# Altium footprint library DS3231_V858.PcbLib: 1 footprints
Each footprint in its own frame and in the unit in brackets; x right, y up, seen from the top. Pads: shape width x height; smd on the part's side, far side on the other; paste and mask are expansions set on the pad; w line width, h text height; cw(c..) or ccw(c..) is an arc to the next point about the centre after c.
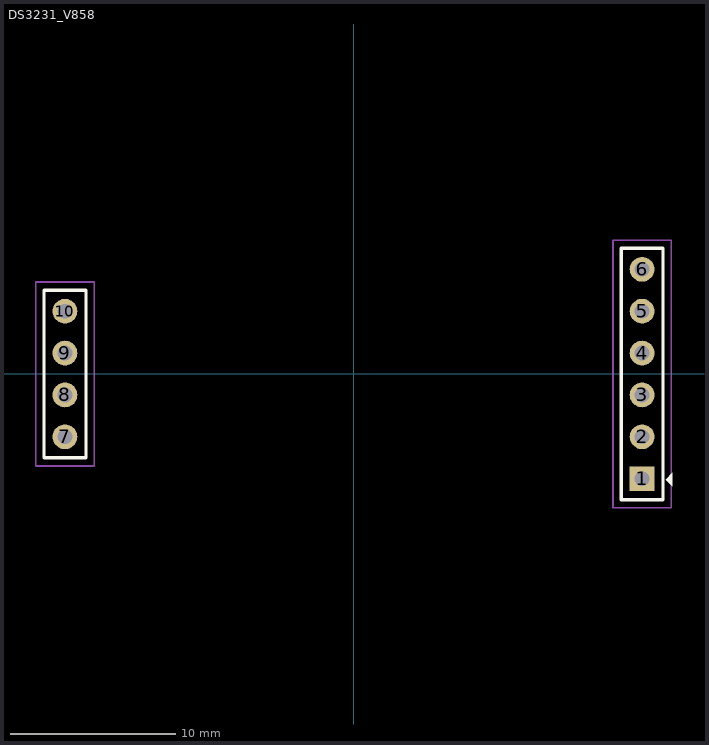
[diagram p0: the footprint, top view; thin cyan lines are the x and y axes]

## DS3231_V858 [mm]
pads (10):
  rect 1.5x1.5 hole 0.9: 1(17.504,-6.35)
  round 1.5 hole 0.9: 2(17.504,-3.81) 3(17.504,-1.27) 4(17.504,1.27) 5(17.504,3.81) 6(17.504,6.35) 7(-17.504,-3.811) 8(-17.504,-1.271) 9(-17.504,1.269) 10(-17.504,3.809)
Top Overlay:
  region: 19.328,-6.001 19.328,-6.801 18.928,-6.401
  lines w0.2: -18.771,-5.081 -16.231,-5.081 -16.231,5.079 -18.771,5.079 -18.771,-5.081 ; 16.236,-7.62 16.236,7.62 18.776,7.62 18.776,-7.62 16.236,-7.62
Top Courtyard:
  lines w0.1: -19.271,-5.581 -19.271,5.579 -15.731,5.579 -15.731,-5.081 -15.731,-5.581 -19.271,-5.581 ; 15.736,-8.12 19.276,-8.12 19.276,-7.62 19.276,8.12 15.736,8.12 15.736,-8.12
3D body: height 3, standoff 0, extent 16.767,-2.007 18.24,-0.533
3D body: height 3, standoff 0, extent 16.767,-4.547 18.24,-3.073
3D body: height 3, standoff 0, extent 16.767,-7.087 18.24,-5.613
3D body: height 3, standoff 0, extent 16.767,3.073 18.24,4.547
3D body: height 3, standoff 0, extent 16.767,5.614 18.24,7.087
3D body "Pin Header Male 01x01 P2.54mm.stp": height 8.34, standoff -3.05, extent 16.236,-2.54 18.776,0
3D body "Pin Header Male 01x01 P2.54mm.stp": height 8.34, standoff -3.05, extent 16.236,-5.08 18.776,-2.54
3D body: height 3, standoff 0, extent 16.767,0.533 18.24,2.007
3D body "Pin Header Male 01x01 P2.54mm.stp": height 8.34, standoff -3.05, extent 16.236,-7.62 18.776,-5.08
3D body: height 3, standoff 0, extent -18.24,0.533 -16.767,2.006
3D body: height 3, standoff 0, extent -18.24,-4.547 -16.767,-3.074
3D body: height 3, standoff 0, extent -18.24,-2.007 -16.767,-0.534
3D body "Pin Header Male 01x01 P2.54mm.stp": height 8.34, standoff -3.05, extent -18.771,-2.541 -16.231,-0.001
3D body "Pin Header Male 01x01 P2.54mm.stp": height 8.34, standoff -3.05, extent -18.771,-0.001 -16.231,2.539
3D body: height 3, standoff 0, extent -18.24,3.073 -16.767,4.546
3D body "Pin Header Male 01x01 P2.54mm.stp": height 8.34, standoff -3.05, extent -18.771,-5.081 -16.231,-2.541
3D body "Pin Header Male 01x01 P2.54mm.stp": height 8.34, standoff -3.05, extent -18.771,2.539 -16.231,5.079
3D body "Pin Header Male 01x01 P2.54mm.stp": height 8.34, standoff -3.05, extent 16.236,0 18.776,2.54
3D body "Pin Header Male 01x01 P2.54mm.stp": height 8.34, standoff -3.05, extent 16.236,2.54 18.776,5.08
3D body "Pin Header Male 01x01 P2.54mm.stp": height 8.34, standoff -3.05, extent 16.236,5.08 18.776,7.62
3D body "Pin Header Male 01x01 P2.54mm.stp": height -1.66, standoff -13.05, extent -18.772,-5.081 -16.232,-2.541
3D body "Pin Header Male 01x01 P2.54mm.stp": height -1.66, standoff -13.05, extent -18.772,-2.537 -16.232,0.003
3D body "Pin Header Male 01x01 P2.54mm.stp": height -1.66, standoff -13.05, extent -18.772,-0.004 -16.232,2.536
3D body "Pin Header Male 01x01 P2.54mm.stp": height -1.66, standoff -13.05, extent -18.772,2.539 -16.232,5.079
3D body "DS3231 Timer Assembly.stp": height -2, standoff -19.63, extent -19.602,-10.201 18.738,11.599